# Altium schematic symbol library Symbol.SchLib: 125 symbols (part 1 of 2)
Pins are listed as number, name and electrical type; pins without a type are passive.

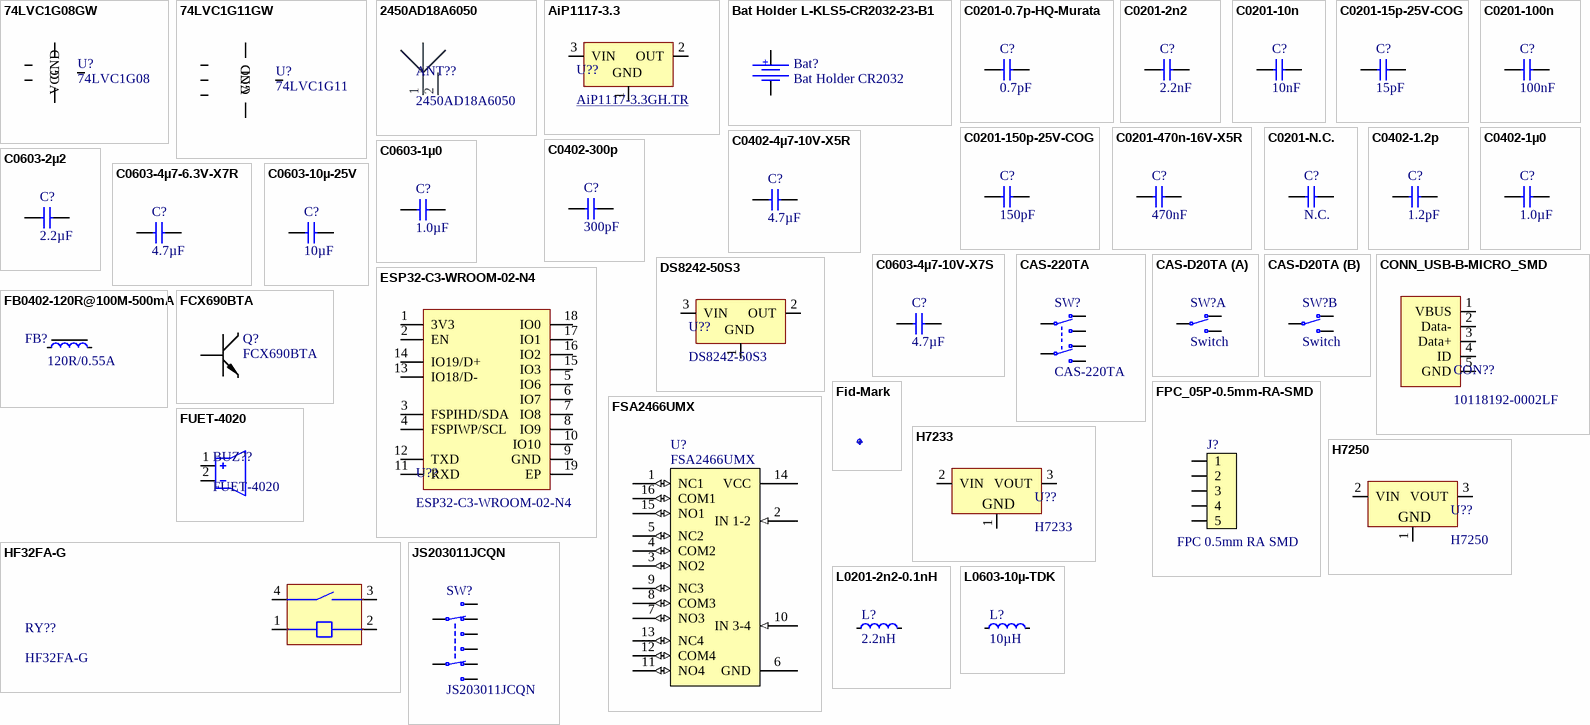
[diagram p0: symbols 74LVC1G08GW to L0603-10µ-TDK]

## 74LVC1G08GW
designator U?, comment 74LVC1G08
Single 2-Input AND Gate; Part Number: 74LVC1G08GW; Manufacturer: NXP Semiconductors; Part number IPS: 00000009992; Artikkelnr Noca: 15049058; Pad Count: 5; Manufacturer Part Number: 74LVC1G08GW; Footprint Doc: SC70-5; LatestRevisionDate: 2016-10-18; Pin Count: 5; Publisher: Nordic Semiconductor; Published: 2016-10-18; Value: 74LVC1G08; Note: Single 2-Input AND Gate; ComponentLink1URL: N.A.; ComponentLink1Description: Datasheet; ComponentLink2URL: N.A.; ComponentLink2Description: Supplier link; HelpURL: http://www.nxp.com/documents/data_sheet/74LVC1G08.pdf; Supplier 1: Digi-Key; Supplier Part Number 1: 568-1580-1-ND; Supplier 2: Farnell; Supplier Part Number 2: 242-8299; Component Class: Misc_ICs; PartId: 101900155
footprint SOT65P210X100-5N
pins: 1 A, 2 B, 3 GND (power), 4 Y, 5 VCC (power)

## 74LVC1G11GW
designator U?, comment 74LVC1G11
Single 3-input AND gate; Part Number: 74LVC1G11GW; Manufacturer: NXP Semiconductors; Part number IPS: 00000001430; Artikkelnr Noca: 15079348; Pad Count: 6; Manufacturer Part Number: 74LVC1G11GW; Footprint Doc: SC70-6; LatestRevisionDate: 2016-10-18; Pin Count: 6; Publisher: Nordic Semiconductor; Published: 2016-10-18; Value: 74LVC1G11; Note: Single 3-input AND gate; ComponentLink1URL: N.A.; ComponentLink1Description: Datasheet; ComponentLink2URL: N.A.; ComponentLink2Description: Supplier link; HelpURL: http://www.nxp.com/documents/data_sheet/74LVC1G11.pdf; Supplier 1: Digi-Key; Supplier Part Number 1: 568-7757-1-ND; Supplier 2: Farnell; Supplier Part Number 2: 243-8826; Component Class: Misc_ICs; PartId: 101900157
footprint SOT65P210X100-6N
pins: 1 A, 2 GND (power), 3 B, 4 Y, 5 VCC (power), 6 C

## 2450AD18A6050
designator ANT??
Antennas 2.45 / 6.05 GHz BT/WiFi and UWB Mini Antenna, Single-feed, Corner Mount; LCSC: NILL; Mouser Part Number: 609-2450AD18A6050; Package: SMD
footprint 2450AD18A6050
pins: 1, 2 NC

## AiP1117-3.3
designator U??, comment AiP1117-3.3GH.TR
LCSC: C2943304
footprint SOT-223
pins: 1 GND, 2 OUT, 3 VIN

## Bat Holder L-KLS5-CR2032-23-B1
designator Bat?, comment Bat Holder CR2032
Bat Holder CR2032 SMD; Part Number: Bat Holder L-KLS5-CR2032-23-B1; Manufacturer: KLS Electronic; Manufacturer Part Number: L-KLS5-CR2032-23-B1; Artikkelnr Noca: N.A.; Pad Count: 2; ComponentLink1URL: http://www.klsele.com/admin/product_upload/20151124103736KLS5-CR2032-23-B.pdf; ComponentLink1Description: Datasheet; ComponentLink2URL: N.A.; ComponentLink2Description: Supplier link; HelpURL: http://www.klsele.com/products/connectors/Coin-Cell-Holders-Series/4685.html; Footprint Doc: CR2032_HOLDER; LatestRevisionDate: 2019-08-29; Published: 2019-08-28; Value: Bat Holder CR2032; Note: Bat Holder CR2032; Supplier 1: Cabcon; Supplier Part Number 1: L-KLS5-CR2032-23-B1; Supplier 2: Mouser; Supplier Part Number 2: 614-SMTU2032-LF; Part number IPS: N.A.; PartId: 100500651; Component Class: Connectors; Author: rsk; Part number Norautron: N.A.
footprint L-KLS5-CR2032-23-B1
pins: 1, 2
text: +

## C0201-0.7p-HQ-Murata
designator C?, comment 0.7pF
Ceramic Capacitor C0G, NP0 0201, ±0.1pF 25V; Part Number: C0201-0.7p-HQ-Murata; Manufacturer: Murata; Manufacturer Part Number: GJM0335C1ER70BB01D; Artikkelnr Noca: N.A.; Pad Count: 2; LatestRevisionDate: 2020-10-13; Pin Count: 2; Publisher: Nordic Semiconductor; Published: 2020-03-05; Value: 0.7pF; Note: 25V; Footprint Doc: 0201; ComponentLink1URL: https://search.murata.co.jp/Ceramy/image/img/A01X/G101/ENG/GJM0335C1ER70BB01-01.pdf; ComponentLink1Description: Datasheet; ComponentLink2URL: https://www.murata.com/en-eu/products/productdetail?partno=GJM0335C1ER70BB01%23; ComponentLink2Description: Supplier link; HelpURL: https://www.digikey.no/product-detail/en/murata-electronics/GJM0335C1ER70BB01D/490-8076-1-ND/4380362; Supplier 1: Digi-Key; Supplier Part Number 1: 490-8076-1-ND; Supplier 2: N.A.; Supplier Part Number 2: N.A.; Part number IPS: N.A.; Component Class: Capacitors; PartId: 100200441
footprint CAPC0603X03L_C
pins: 1, 2

## C0201-2n2
designator C?, comment 2.2nF
Capacitor, X7R, ±10%, 10V; Part Number: C0201-2n2; Manufacturer: N.A.; Part number IPS: 00000001778; Pad Count: 2; LatestRevisionDate: 2014-11-13; Pin Count: 2; Published: 2014-11-13; Value: 2.2nF; Footprint Doc: 0201; Manufacturer Part Number: N.A.; ComponentLink1URL: N.A.; ComponentLink1Description: Datasheet; ComponentLink2URL: N.A.; ComponentLink2Description: Supplier link; HelpURL: N.A.; Publisher: Nordic Semiconductor; Note: 10V; Supplier 1: N.A.; Supplier Part Number 1: N.A.; Supplier 2: N.A.; Supplier Part Number 2: N.A.; Artikkelnr Noca: N.A.; Component Class: Capacitors; PartId: 100200060
footprint CAPC0603X03L_C
pins: 1, 2

## C0201-10n
designator C?, comment 10nF
Capacitor, X7R, ±10%; Part Number: C0201-10n; Manufacturer: N.A.; Part number IPS: 00000003480; Note: 10V; Pad Count: 2; Manufacturer Part Number: N.A.; LatestRevisionDate: 2017-11-09; Pin Count: 2; Publisher: Nordic Semiconductor; Published: 2014-11-13; Value: 10nF; Artikkelnr Noca: N.A.; Footprint Doc: 0201; ComponentLink1URL: N.A.; ComponentLink1Description: Datasheet; ComponentLink2URL: N.A.; ComponentLink2Description: Supplier link; HelpURL: N.A.; Supplier 1: N.A.; Supplier Part Number 1: N.A.; Supplier 2: N.A.; Supplier Part Number 2: N.A.; Component Class: Capacitors; PartId: 100200067
footprint CAPC0603X03L_C
pins: 1, 2

## C0201-15p-25V-COG
designator C?, comment 15pF
Ceramic Capacitor C0G, NP0 0201, ±5% 25V; Part Number: C0201-15p-25V-COG; Manufacturer: Walsin Technology Corporation; Manufacturer Part Number: 0201N150J250CT; Note: Chip Cap 5%; Artikkelnr Noca: N.A.; Pad Count: 2; Footprint Doc: 0201; LatestRevisionDate: 2020-10-13; Pin Count: 2; Publisher: Nordic Semiconductor; Published: 2020-03-17; Value: 15pF; Part number IPS: N.A.; ComponentLink1URL: http://www.passivecomponent.com/wp-content/uploads/ecd/0201N150J250CT-IL.pdf; ComponentLink1Description: Datasheet; ComponentLink2URL: https://www.digikey.no/product-detail/en/walsin-technology-corporation/0201N150J250CT/1292-1138-1-ND/9355142; ComponentLink2Description: Supplier link; HelpURL: N.A.; Supplier 1: Digi-Key; Supplier Part Number 1: 1292-1138-1-ND; Supplier 2: N.A.; Supplier Part Number 2: N.A.; Component Class: Capacitors; PartId: 100200443
footprint CAPC0603X03L_C
pins: 1, 2

## C0201-100n
designator C?, comment 100nF
Capacitor, X5R, ±10%; Part Number: C0201-100n; Manufacturer: N.A.; Part number IPS: 00000001248, 00000002505; Note: 16V; Pad Count: 2; Manufacturer Part Number: N.A.; LatestRevisionDate: 2017-11-09; Pin Count: 2; Publisher: Nordic Semiconductor; Published: 2014-11-13; Value: 100nF; Artikkelnr Noca: N.A.; Footprint Doc: 0201; ComponentLink1URL: N.A.; ComponentLink1Description: Datasheet; ComponentLink2URL: N.A.; ComponentLink2Description: Supplier link; HelpURL: N.A.; Supplier 1: N.A.; Supplier Part Number 1: N.A.; Supplier 2: N.A.; Supplier Part Number 2: N.A.; Component Class: Capacitors; PartId: 100200078
footprint CAPC0603X03L_C
pins: 1, 2

## C0201-150p-25V-COG
designator C?, comment 150pF
Ceramic Capacitor C0G, NP0 0201, ±5% 25V; Part Number: C0201-150p-25V-COG; Manufacturer: Murata; Manufacturer Part Number: GRM0335C1E151JA01D; Note: Chip Cap 5%; Artikkelnr Noca: N.A.; Pad Count: 2; Footprint Doc: 0201; LatestRevisionDate: 2020-10-13; Pin Count: 2; Publisher: Nordic Semiconductor; Published: 2020-03-17; Value: 150pF; Part number IPS: N.A.; ComponentLink1URL: https://www.mouser.com/datasheet/2/281/murata_03052018_GRM_Series_1-1310166.pdf; ComponentLink1Description: Datasheet; ComponentLink2URL: https://www.mouser.com/ProductDetail/Murata-Electronics/GRM0335C1E151JA01D?qs=%2Fha2pyFaduiNjPL6xbzKSo%252BchgTMqklsGrBRdYVX326W%252BRpjq1WqAQZ5mC%252Bu6szW; ComponentLink2Description: Supplier link; HelpURL: N.A.; Supplier 1: Digi-Key; Supplier Part Number 1: 1292-1138-1-ND; Supplier 2: N.A.; Supplier Part Number 2: N.A.; Component Class: Capacitors; PartId: 100200444
footprint CAPC0603X03L_C
pins: 1, 2

## C0201-470n-16V-X5R
designator C?, comment 470nF
Ceramic Capacitor X5R 0201, ±10% 16V; Part Number: C0201-470n-16V-X5R; Manufacturer: Taiyo Yuden; Manufacturer Part Number: EMK063BBJ474KPLF; Artikkelnr Noca: N.A.; Pad Count: 2; Footprint Doc: 0201; LatestRevisionDate: 2020-10-13; Pin Count: 2; Publisher: Nordic Semiconductor; Published: 2020-03-05; Value: 470nF; Note: 16V; Part number IPS: N.A.; ComponentLink1URL: https://ds.yuden.co.jp/TYCOMPAS/ut/specSheet?pn=EMK063BBJ474KPLF; ComponentLink1Description: Datasheet; ComponentLink2URL: https://ds.yuden.co.jp/TYCOMPAS/ut/sm/detail?pn=EMK063BBJ474KPLF&u=M; ComponentLink2Description: Supplier link; HelpURL: https://www.digikey.no/products/en?keywords=587-6264-1-ND; Supplier 1: Digi-Key; Supplier Part Number 1: 587-6264-1-ND; Supplier 2: N.A.; Supplier Part Number 2: N.A.; Component Class: Capacitors; PartId: 100200442
footprint CAPC0603X03L_C
pins: 1, 2

## C0201-N.C.
designator C?, comment N.C.
Not mounted; Part Number: C0201-N.C.; Manufacturer: N.A.; Assembly: Not mounted; Note: Chip Cap; Pad Count: 2; Manufacturer Part Number: N.A.; Footprint Doc: 0201; LatestRevisionDate: 2014-11-13; Pin Count: 2; Publisher: Nordic Semiconductor; Published: 2014-11-13; Value: N.C.; Artikkelnr Noca: N.A.; Part number IPS: N.A.; ComponentLink1URL: N.A.; ComponentLink1Description: Datasheet; ComponentLink2URL: N.A.; ComponentLink2Description: Supplier link; HelpURL: N.A.; Supplier 1: N.A.; Supplier Part Number 1: N.A.; Supplier 2: N.A.; Supplier Part Number 2: N.A.; Component Class: Capacitors; PartId: 100200001
footprint CAPC0603X03L_C_NC
pins: 1, 2

## C0402-1.2p
designator C?, comment 1.2pF
Capacitor, NP0, ±0.1pF; Part Number: C0402-1.2p; Manufacturer: N.A.; Part number IPS: 00000005410; Note: 50V; Artikkelnr Noca: 20029157; Pad Count: 2; Manufacturer Part Number: N.A.; LatestRevisionDate: 2011-05-11; Pin Count: 2; Publisher: Nordic Semiconductor; Published: 2009-05-08; Value: 1.2pF; Footprint Doc: 0402; ComponentLink1URL: N.A.; ComponentLink1Description: Datasheet; ComponentLink2URL: N.A.; ComponentLink2Description: Supplier link; HelpURL: N.A.; Supplier 1: N.A.; Supplier Part Number 1: N.A.; Supplier 2: N.A.; Supplier Part Number 2: N.A.; Component Class: Capacitors; PartId: 100200119
footprint CAPC1005X04L
pins: 1, 2

## C0402-1µ0
designator C?, comment 1.0µF
Capacitor, X5R, ±5%, 6.3V; Part Number: C0402-1µ0; Manufacturer: N.A.; Part number IPS: 00000007786, 00000003457; Artikkelnr Noca: 20039235; Pad Count: 2; Manufacturer Part Number: N.A.; LatestRevisionDate: 2016-08-22; Pin Count: 2; Publisher: Nordic Semiconductor; Published: 2009-05-08; Value: 1.0µF; Note: 6.3V; Footprint Doc: 0402; ComponentLink1URL: N.A.; ComponentLink1Description: Datasheet; ComponentLink2URL: N.A.; ComponentLink2Description: Supplier link; HelpURL: N.A.; Supplier 1: Digi-Key; Supplier Part Number 1: 1276-1444-1-ND; Supplier 2: N.A.; Supplier Part Number 2: N.A.; Component Class: Capacitors; PartId: 100200190
footprint CAPC1005X04L
pins: 1, 2

## C0402-4µ7-10V-X5R
designator C?, comment 4.7µF
CAP CER 4.7UF 10V X5R 0402; Part Number: C0402-4µ7-10V-X5R; Manufacturer: Murata; Manufacturer Part Number: GRM155R61A475MEAAD; Artikkelnr Noca: N.A.; Pad Count: 2; ComponentLink1URL: http://search.murata.co.jp/Ceramy/image/img/A01X/G101/ENG/GRM155R61A475MEAA-01.pdf; ComponentLink1Description: Datasheet; ComponentLink2URL: https://www.digikey.com/product-detail/en/murata-electronics-north-america/GRM155R61A475MEAAD/490-14306-1-ND/6234742; ComponentLink2Description: Supplier link; HelpURL: https://psearch.en.murata.com/capacitor/product/GRM155R61A475MEAA%23.html; Footprint Doc: 0402; LatestRevisionDate: 2020-10-13; Pin Count: 2; Publisher: Nordic Semiconductor; Published: 2018-10-04; Value: 4.7µF; Note: 10V; Supplier 1: Digi-Key; Supplier Part Number 1: 490-14306-1-ND; Supplier 2: N.A.; Supplier Part Number 2: N.A.; Part number IPS: N.A.; Component Class: Capacitors; PartId: 100200415
footprint CAPC1005X04L
pins: 1, 2

## C0402-300p
designator C?, comment 300pF
Capacitor, NP0, ±5%; Part Number: C0402-300p; Manufacturer: N.A.; Part number IPS: 00000007788; Note: 50V; Artikkelnr Noca: 20020004; Pad Count: 2; Manufacturer Part Number: N.A.; Footprint Doc: 0402; LatestRevisionDate: 2020-10-13; Pin Count: 2; Publisher: Nordic Semiconductor; Published: 2015-05-29; Value: 300pF; ComponentLink1URL: N.A.; ComponentLink1Description: Datasheet; ComponentLink2URL: N.A.; ComponentLink2Description: Supplier link; HelpURL: N.A.; Supplier 1: Digi-Key; Supplier Part Number 1: 490-3234-1-ND; Supplier 2: N.A.; Supplier Part Number 2: N.A.; Component Class: Capacitors; PartId: 100200155
footprint CAPC1005X04L
pins: 1, 2

## C0603-1µ0
designator C?, comment 1.0µF
Capacitor, X7R, ±10%; Part Number: C0603-1µ0; Manufacturer: N.A.; Part number IPS: 00000000616; Note: 16V; Artikkelnr Noca: 20039282; Pad Count: 2; Manufacturer Part Number: N.A.; Footprint Doc: 0603; LatestRevisionDate: 2013-06-05; Pin Count: 2; Publisher: Nordic Semiconductor; Published: 2009-05-08; Value: 1.0µF; ComponentLink1URL: N.A.; ComponentLink1Description: Datasheet; ComponentLink2URL: N.A.; ComponentLink2Description: Supplier link; HelpURL: N.A.; Supplier 1: N.A.; Supplier Part Number 1: N.A.; Supplier 2: N.A.; Supplier Part Number 2: N.A.; Component Class: Capacitors; PartId: 100200271
footprint CAPC1608X06L
pins: 1, 2

## C0603-2µ2
designator C?, comment 2.2µF
Capacitor, X7R, ±10%; Part Number: C0603-2µ2; Manufacturer: N.A.; Note: 6.3V; Artikkelnr Noca: 20039322; Pad Count: 2; Manufacturer Part Number: N.A.; LatestRevisionDate: 2016-10-10; Pin Count: 2; Publisher: Nordic Semiconductor; Published: 2009-05-08; Value: 2.2µF; Footprint Doc: 0603; ComponentLink1URL: N.A.; ComponentLink1Description: Datasheet; ComponentLink2URL: N.A.; ComponentLink2Description: Supplier link; HelpURL: N.A.; Supplier 1: N.A.; Supplier Part Number 1: N.A.; Supplier 2: N.A.; Supplier Part Number 2: N.A.; Part number IPS: N.A.; Component Class: Capacitors; PartId: 100200272
footprint CAPC1608X06L
pins: 1, 2

## C0603-4µ7-6.3V-X7R
designator C?, comment 4.7µF
Capacitor, X7R, ±10%, 6.3V; Part Number: C0603-4µ7-6.3V-X7R; Manufacturer: Samsung Electro-Mechanics America; Manufacturer Part Number: CL10B475KQ8NQNC; Part number IPS: 00000002541; Part number Norautron: N.A.; Pad Count: 2; Artikkelnr Noca: 20039473; Value: 4.7µF; Footprint Doc: 0603; Component Class: Capacitors; Author: rsk; PartId: 100200350; ComponentLink1URL: N.A.; ComponentLink1Description: Datasheet; ComponentLink2URL: N.A.; ComponentLink2Description: Supplier link; HelpURL: http://media.digikey.com/pdf/Data%20Sheets/Samsung%20PDFs/CL10B475KQ8NQNC_Spec.pdf; LatestRevisionDate: 2015-06-10; Published: 2015-06-10; Note: 6.3V; Supplier 1: Digi-Key; Supplier Part Number 1: 1276-2087-1-ND; Supplier 2: N.A.; Supplier Part Number 2: N.A.
footprint CAPC1608X06L
pins: 1, 2

## C0603-4µ7-10V-X7S
designator C?, comment 4.7µF
Capacitor, X7S, ±10%, 10V; Part Number: C0603-4µ7-10V-X7S; Manufacturer: N.A.; Part number IPS: 00000001779; Artikkelnr Noca: 20030013; Pad Count: 2; Manufacturer Part Number: N.A.; LatestRevisionDate: 2016-08-15; Pin Count: 2; Publisher: Nordic Semiconductor; Published: 2016-08-15; Value: 4.7µF; Note: 10V; Footprint Doc: 0603; ComponentLink1URL: N.A.; ComponentLink1Description: Datasheet; ComponentLink2URL: N.A.; ComponentLink2Description: Supplier link; HelpURL: N.A.; Supplier 1: Digi-Key; Supplier Part Number 1: 445-14258-1-ND; Supplier 2: N.A.; Supplier Part Number 2: N.A.; Component Class: Capacitors; PartId: 100200351
footprint CAPC1608X06L
pins: 1, 2

## C0603-10µ-25V
designator C?, comment 10µF
Capacitor, X5R, ±20%, 25V; Part Number: C0603-10µ-25V; Manufacturer: Samsung Electro-Mechanics America; Manufacturer Part Number: CL10A106MA8NRNC; Part number IPS: 00000009948; Part number Norautron: N.A.; Artikkelnr Noca: 20039436; Pad Count: 2; Footprint Doc: 0603; LatestRevisionDate: 2015-04-10; Published: 2015-04-10; Value: 10µF; Note: 25V; ComponentLink1URL: N.A.; ComponentLink1Description: Datasheet; ComponentLink2URL: N.A.; ComponentLink2Description: Supplier link; HelpURL: http://www.samsungsem.com/kr/front/downloadcms.do?path=/kr/support/product-search/mlcc/__icsFiles/afieldfile/2014/11/05&fileName=S_CL10A106MA8NRNC.pdf; Supplier 1: Digi-Key; Supplier Part Number 1: 1276-1869-1-ND; Supplier 2: N.A.; Supplier Part Number 2: N.A.; PartId: 100200354; Component Class: Capacitors; Author: rsk
footprint CAPC1608X06L
pins: 1, 2

## CAS-220TA
designator SW?
Slide Switch DPDT J Hook; Manufacturer: Copal Electronics Inc; Part number IPS: 00000009983; Note: N.A.; Artikkelnr Noca: 50019042; Pad Count: 6; Part Number: CAS-220TA; Manufacturer Part Number: CAS-220TA; Footprint Doc: CAS-220TA; LatestRevisionDate: 2010-02-18; Pin Count: 6; Publisher: Nordic Semiconductor; Published: 2010-02-18; Value: CAS-220TA; ComponentLink1URL: N.A.; ComponentLink1Description: Datasheet; ComponentLink2URL: N.A.; ComponentLink2Description: Supplier link; HelpURL: http://media.digikey.com/pdf/Data%20Sheets/COPAL%20Electronics%20PDFs/CAS%20SMD%20Slide%20Switch.pdf; Supplier 1: Digi-Key; Supplier Part Number 1: CAS220JTR-ND; Supplier 2: N.A.; Supplier Part Number 2: N.A.; Component Class: Switches; PartId: 101500003
footprint CAS-220TA
pins: 1 N.O-1, 2 COM-1, 3 N.C-1, 4 N.O-2, 5 COM-2, 6 N.C-2

## CAS-D20TA
designator SW?, comment Switch
SMD slide Switch 2xSPDT; Part Number: CAS-D20TA; Manufacturer: Copal Electronics Inc; Pad Count: 6; Note: N.A.; PartId: 101500004; Component Class: Switches; Author: rsk; Manufacturer Part Number: CAS-D20TA; ComponentLink1URL: N.A.; ComponentLink1Description: Datasheet; ComponentLink2URL: N.A.; ComponentLink2Description: Supplier link; HelpURL: http://copal-electronics.info/jp/0019b/cas_ja.pdf; Footprint Doc: CAS-D20A; LatestRevisionDate: 2012-10-08; Published: 2012-10-08; Value: Switch; Supplier 1: Digi-Key; Supplier Part Number 1: CASD20JTR-ND; Supplier 2: N.A.; Supplier Part Number 2: N.A.; Artikkelnr Noca: N.A.; Part number IPS: N.A.; Part number Norautron: N.A.
footprint CAS-D20A
part A pins: 1 N.O, 2 COM, 3 N.C
part B pins: 4 N.O, 5 COM, 6 N.C

## CONN_USB-B-MICRO_SMD
designator CON??, comment 10118192-0002LF
LCSC: C2972784
footprint CONN_USB-B-MICRO-SMD-10118192-0002LF
pins: 1 VBUS, 2 Data-, 3 Data+, 4 ID, 5 GND

## DS8242-50S3
designator U??
500mA 70dB@(1kHz) null 5V positive 35V SOT23-3 Linear Voltage Regulators (LDO) ROHS; LCSC: C5884139
pins: 1 GND, 2 OUT, 3 VIN

## ESP32-C3-WROOM-02-N4
designator U??
LCSC: C2934560
footprint ESP32-C3-WROOM-02-N4-4MB
pins: 1 3V3, 2 EN, 3 FSPIHD/SDA, 4 FSPIWP/SCL, 5 IO6, 6 IO7, 7 IO8, 8 IO9, 9 GND, 10 IO10, 11 RXD, 12 TXD, 13 IO18/D-, 14 IO19/D+, 15 IO3, 16 IO2, 17 IO1, 18 IO0, 19 EP

## FB0402-120R@100M-500mA
designator FB?, comment 120R/0.55A
Ferrite Bead, 120 Ohm @ 100MHz, 500mA, 250 mOhm Max; Part Number: FB0402-120R@100M-500mA; Manufacturer: Murata; Manufacturer Part Number: BLM15AG121SN1D; Part number IPS: 00000009954; Note: Chip EMIFIL Inductor Type Chip Ferrite Bead; Artikkelnr Noca: 33029317; Pad Count: 2; Footprint Doc: 0402; LatestRevisionDate: 2014-01-10; Pin Count: 2; Publisher: Nordic Semiconductor; Published: 2011-11-14; Value: 120R/0.55A; ComponentLink1Description: Datasheet; ComponentLink2Description: Supplier link; ComponentLink1URL: N.A.; ComponentLink2URL: N.A.; HelpURL: http://search.murata.co.jp/Ceramy/image/img/PDF/ENG/L0110S0100BLM15A_SN.pdf; Supplier 1: Digi-Key; Supplier Part Number 1: 490-1005-1-ND; Supplier 2: Farnell; Supplier Part Number 2: 151-5760; Component Class: Inductors; PartId: 100300099
footprint INDC1005X04L
pins: 1, 2

## FCX690BTA
designator Q?
45V NPN high gain power transistor; Manufacturer: Diodes Incorporated; Part number IPS: 00000009974; Note: N.A.; Artikkelnr Noca: 35010019; Pad Count: 3; Part Number: FCX690BTA; Manufacturer Part Number: FCX690BTA; Footprint Doc: SOT-89; LatestRevisionDate: 2016-07-07; Publisher: Nordic Semiconductor; Published: 2016-07-07; Value: FCX690BTA; ComponentLink1URL: N.A.; ComponentLink1Description: Datasheet; ComponentLink2URL: N.A.; ComponentLink2Description: Supplier link; HelpURL: http://www.diodes.com/_files/datasheets/FCX690B.pdf; Pin Count: 3; Supplier 1: Digi-Key; Supplier Part Number 1: FCX690BCT-ND; Supplier 2: N.A.; Supplier Part Number 2: N.A.; Component Class: Semiconductors; PartId: 101300130
footprint SOT89-150P409X160-3N
pins: 1 B, 2 C (power), 3 E (power)

## Fid-Mark
designator Fid?, comment Fiducial mark  (value not drawn)
Part Number: Fid-Mark; Artikkelnr Noca: N.A.; Manufacturer: *; Manufacturer Part Number: *; LatestRevisionDate: 2009-12-12; Pin Count: 1; Publisher: Nordic Semiconductor; Published: 2009-12-12; Value: *; Note: *; Footprint Doc: Fiducial; Part number IPS: N.A.; ComponentLink1URL: *; ComponentLink1Description: Datasheet; ComponentLink2URL: *; ComponentLink2Description: Supplier link; HelpURL: *; Supplier 1: *; Supplier Part Number 1: *; Supplier 2: *; Supplier Part Number 2: *
footprint Fiducial

## FPC_05P-0.5mm-RA-SMD
designator J?, comment FPC 0.5mm RA SMD
0.5mm FPC, 5P,Right Angle SMT,Double Contact,H=1.2mm,White, Tin plated; Part Number: FPC_05P-0.5mm-RA-SMD; Manufacturer: W-CON; Manufacturer Part Number: 5141-05RZDNWR01; Part number IPS: 00000007792; Note: N.A.; Artikkelnr Noca: 55010020; Pad Count: 7; Footprint Doc: FPC_05P-0.5mm-RA-SMD; LatestRevisionDate: 2016-04-21; Pin Count: 7; Publisher: Nordic Semiconductor; Published: 2015-06-22; Value: FPC 0.5mm RA SMD; ComponentLink1URL: N.A.; ComponentLink1Description: Datasheet; ComponentLink2URL: N.A.; ComponentLink2Description: Supplier link; HelpURL: \\hizz\pro\app9717\Datasheet\connectors\W-CON\5141-XXRZDNXX0X.pdf; Supplier 1: Cabcon; Supplier Part Number 1: 5141-05RZDNWR01; Supplier 2: Digi-Key; Supplier Part Number 2: WM9836CT-ND; Component Class: Connectors; PartId: 100500528
footprint FPC_05P-0.5mm-RA-SMD
pins: 1, 2, 3, 4, 5

## FSA2466UMX
designator U?
Data / Audio Low-Voltage Dual DPDT Analog Switch; Manufacturer: ON Semiconductor; Part number IPS: 00000009986; Note: N.A.; Artikkelnr Noca: 15070069; Pad Count: 16; Part Number: FSA2466UMX; Manufacturer Part Number: FSA2466UMX; Footprint Doc: UFQFN-16; LatestRevisionDate: 2019-05-15; Pin Count: 16; Publisher: Nordic Semiconductor; Published: 2016-05-18; Value: FSA2466UMX; ComponentLink1URL: N.A.; ComponentLink1Description: Datasheet; ComponentLink2URL: N.A.; ComponentLink2Description: Supplier link; HelpURL: https://www.onsemi.com/pub/Collateral/FSA2466-D.PDF; Supplier 1: Digi-Key; Supplier Part Number 1: FSA2466UMXCT-ND; Supplier 2: Mouser; Supplier Part Number 2: 512-FSA2466UMX; Component Class: Misc_ICs; PartId: 101900422
footprint XQFN40P180X260X50-16N
pins: 1 NC1 (io), 2 IN 1-2 (in), 3 NO2 (io), 4 COM2 (io), 5 NC2 (io), 6 GND (power), 7 NO3 (io), 8 COM3 (io), 9 NC3 (io), 10 IN 3-4 (in), 11 NO4 (io), 12 COM4 (io), 13 NC4 (io), 14 VCC (power), 15 NO1 (io), 16 COM1 (io)

## FUET-4020
designator BUZ??
Externally Driven 65dB@3V,10cm Magnetic 3V 4000Hz SMD,4x4mm Buzzers ROHS; LCSC: C391027; Package: SMD_4x4mm
footprint BUZ-SMD_4x4
pins: 1, 2 -

## H7233
designator U??
40dB@(1kHz) 400mA Fixed 3.3V~3.3V Positive 15V SOT-89-3 Linear Voltage Regulators (LDO) ROHS; LCSC: C277849; Package: SOT-89-3
footprint SOT89-150P409X160-3N
pins: 1 GND, 2 VIN, 3 VOUT

## H7250
designator U??
40dB@(1kHz) 400mA Fixed 5V~5V Positive 15V SOT-23-3 Linear Voltage Regulators (LDO) ROHS; LCSC: C277861; Package: SOT-23-3
footprint SOT-23-3
pins: 1 GND, 2 VIN, 3 VOUT

## HF32FA-G
designator RY??
LCSC: C91370; Package: Plugin,10.1x17.6mm
footprint RELAY-HF32FA-G/005-HSL1
pins: 1, 2, 3, 4

## JS203011JCQN
designator SW?
Slide Switch DP3T 300mA 6V; Manufacturer: C&K; Part number IPS: 00000004321; Note: N.A.; Artikkelnr Noca: 50019116; Pad Count: 8; Part Number: JS203011JCQN; Manufacturer Part Number: JS203011JCQN; Footprint Doc: Switch-Slide-J-Lead-DP3T-13x3.5mm; LatestRevisionDate: 2016-10-05; Pin Count: 8; Publisher: Nordic Semiconductor; Published: 2016-10-05; Value: JS203011JCQN; ComponentLink1URL: N.A.; ComponentLink1Description: Datasheet; ComponentLink2URL: N.A.; ComponentLink2Description: Supplier link; HelpURL: http://www.ckswitches.com/media/1422/js.pdf; Supplier 1: Digi-Key; Supplier Part Number 1: CKN10725CT-ND; Supplier 2: N.A.; Supplier Part Number 2: N.A.; Component Class: Switches; PartId: 101500099
footprint Switch-Slide-J-Lead-DP3T-13x3.5mm
pins: 1 N.O, 2 N.C, 3 COM, 4 N.O, 5 N.O, 6 N.C, 7 COM, 8 N.O

## L0201-2n2-0.1nH
designator L?, comment 2.2nH
FIXED IND 2.2NH 600MA 120 MOHM; Part Number: L0201-2n2-0.1nH; Manufacturer: Murata; Manufacturer Part Number: LQP03HQ2N2B02D; Note: High frequency chip inductor ±5%; Artikkelnr Noca: N.A.; Pad Count: 2; ComponentLink1URL: https://search.murata.co.jp/Ceramy/image/img/P02/JELF243C-0021.pdf; ComponentLink1Description: Datasheet; ComponentLink2URL: https://www.murata.com/en-eu/products/productdetail?partno=LQP03HQ2N2B02%23; ComponentLink2Description: Supplier link; HelpURL: https://www.digikey.no/product-detail/en/murata-electronics/LQP03HQ2N2B02D/490-13899-1-ND/6098849; Footprint Doc: 0201; LatestRevisionDate: 2020-03-05; Pin Count: 2; Publisher: Nordic Semiconductor; Published: 2020-03-05; Value: 2.2nH; Supplier 1: Digi-Key; Supplier Part Number 1: 490-13899-1-ND; Supplier 2: N.A.; Supplier Part Number 2: N.A.; Part number IPS: N.A.; Component Class: Inductors; PartId: 100300398
footprint INDC0603X03L_C
pins: 1, 2

## L0603-10µ-TDK
designator L?, comment 10µH
Inductor, 250mA, ±20%, 1.05ohm. -55°C ~ 125°C; Part Number: L0603-10µ-TDK; Manufacturer: TDK Corporation; Manufacturer Part Number: MLZ1608M100WTD25; Note: N.A.; Pad Count: 2; LatestRevisionDate: 2012-09-19; Pin Count: 2; Publisher: Nordic Semiconductor; Published: 2019-05-06; Value: 10µH; Artikkelnr Noca: N.A.; Footprint Doc: 0603; ComponentLink1URL: N.A.; ComponentLink1Description: Datasheet; ComponentLink2URL: N.A.; ComponentLink2Description: Supplier link; HelpURL: https://product.tdk.com/info/en/catalog/datasheets/inductor_automotive_decoupling_mlz1608_en.pdf; Supplier 1: Digi-Key; Supplier Part Number 1: 445-175588-1-ND; Supplier 2: Mouser; Supplier Part Number 2: 810-MLZ1608M100WTD25; Part number IPS: N.A.; Component Class: Inductors; PartId: 100300079
footprint INDC1608X06L
pins: 1, 2

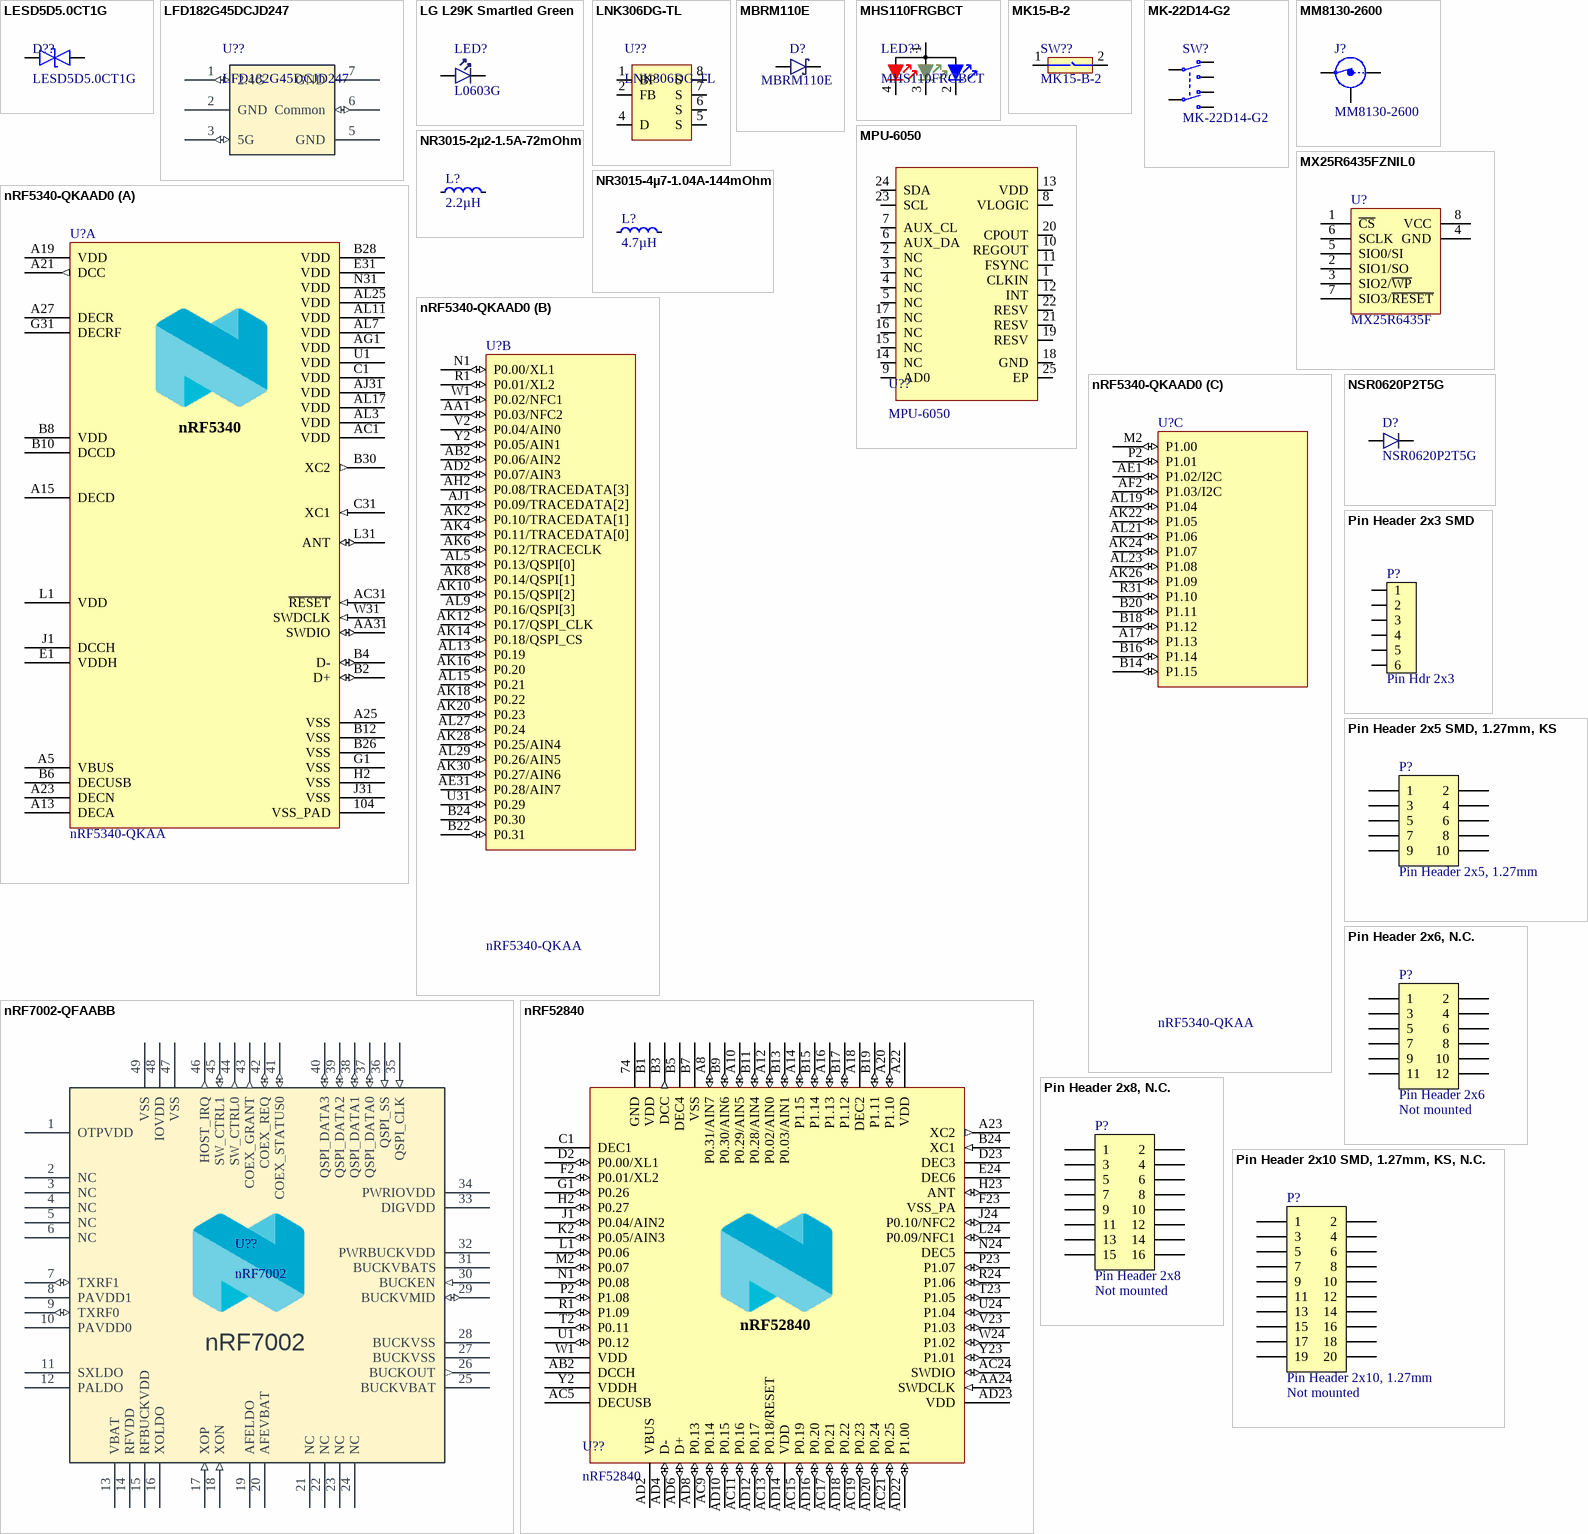
[diagram p1: symbols LESD5D5.0CT1G to Pin Header 2x10 SMD, 1.27mm, KS, N.C.]

## LESD5D5.0CT1G
designator D??
LCSC: C383211
footprint SOD-523
pins: 1, 2

## LFD182G45DCJD247
designator U??
SMD Diplexers ROHS; LCSC: C389571; Footprint: CAF-50P160X80-6N
footprint CAF-50P160X80-6N
pins: 1 2.4G (io), 2 GND (power), 3 5G (io), 5 GND (power), 6 Common (io), 7 GND (power)

## LG L29K Smartled Green
designator LED?, comment L0603G
LED, Green, 0603, 570nm, Vf=1.7V, 2.24..5.6mcd, - 40 to +100°C; Part Number: LG L29K Smartled Green; Manufacturer: Osram; Manufacturer Part Number: LG L29K-G2J1-24-Z; Part number IPS: 00000009961; Part number Norautron: N.A.; Note: 2.24..5.6 mcd, Vfmin=1.7V; Artikkelnr Noca: 13019147; Pad Count: 2; Footprint Doc: 0603; LatestRevisionDate: 2017-08-21; Published: 2014-10-28; Value: L0603G; ComponentLink1URL: N.A.; ComponentLink1Description: Datasheet; ComponentLink2URL: N.A.; ComponentLink2Description: Supplier link; HelpURL: http://www.osram-os.com/Graphics/XPic2/00077107_0.pdf; Supplier 1: Digi-Key; Supplier Part Number 1: 475-2709-1-ND; Supplier 2: Mouser; Supplier Part Number 2: 720-LGL29KG2J124Z; PartId: 101400096; Component Class: Optoelectronics; Author: rsk
footprint LED_0603_G
pins: 1 C, 2 A

## LNK306DG-TL
designator U??
LCSC: C394187; Package: SO-7
footprint SO-8C_7P_4.9x3.9mm
pins: 1 BP, 2 FB, 4 D, 5 S, 6 S, 7 S, 8 S

## MBRM110E
designator D?
Diode Schottky Vf=0.455V @ 100mA, Vr=10V, If=1000mA, Ir=1µA @ 10V; Manufacturer: ON Semiconductor; Manufacturer Part Number: MBRM110ET1G; Part number IPS: 00000009953; Note: N.A.; Artikkelnr Noca: 10029172; Pad Count: 2; Part Number: MBRM110E; Footprint Doc: DO-216AA; LatestRevisionDate: 2016-10-24; Publisher: Nordic Semiconductor; Published: 2016-10-24; Value: MBRM110E; ComponentLink1URL: N.A.; ComponentLink1Description: Datasheet; ComponentLink2URL: N.A.; ComponentLink2Description: Supplier link; HelpURL: http://media.digikey.com/pdf/Data%20Sheets/ON%20Semiconductor%20PDFs/MBRM110E-D.pdf; Pin Count: 2; Supplier 1: Digi-Key; Supplier Part Number 1: MBRM110ET1GOSTR-ND; Supplier 2: Farnell; Supplier Part Number 2: 236-9429; Component Class: Semiconductors; PartId: 101300099
footprint DO-216AA
pins: 1 A, 3 C

## MHS110FRGBCT
designator LED??
SMD,1.5x3.2mm; LCSC: C496820; Package: SMD_1.5x3.2mm
footprint LED_RGB_SMD_1.5x3.2mm
pins: 1 A, 2 C, 3 C, 4 C

## MK15-B-2
designator SW??
Molded Body Reed Switch SPST-NO 10 ~ 15AT Operate Range 10W 500mA (AC/DC) 180 V Surface Mount; LCSC: C575297
footprint REED_SWITCH_SMD_MK15-B-2
pins: 1, 2

## MK-22D14-G2
designator SW?
Slide Switch DPDT; Manufacturer: HUA-JIE CORP.; Note: N.A.; Pad Count: 6; Part Number: MK-22D14-G2; Manufacturer Part Number: MK-22D14-G2; Footprint Doc: MK-22D14-G2; LatestRevisionDate: 2020-10-06; Published: 2020-12-01; Value: MK-22D14-G2; Artikkelnr Noca: N.A.; Part number IPS: N.A.; ComponentLink1URL: N.A.; ComponentLink1Description: Datasheet; ComponentLink2URL: N.A.; ComponentLink2Description: Supplier link; HelpURL: N.A.; Supplier 1: Cabcon; Supplier Part Number 1: MK-22D14-G2; Supplier 2: N.A.; Supplier Part Number 2: N.A.; Component Class: Switches; PartId: 101500131; Author: rsk; Part number Norautron: N.A.
footprint MK-22D14-G2
pins: 1 N.O-1, 2 COM-1, 3 N.C-1, 4 N.O-2, 5 COM-2, 6 N.C-2

## MM8130-2600
designator J?
Coaxial Connector with Switch; Manufacturer: Murata; Part number IPS: 00000009955; Note: N.A.; Artikkelnr Noca: 55029011; Pad Count: 3; Part Number: MM8130-2600; Manufacturer Part Number: MM8130-2600; LatestRevisionDate: 2014-04-24; Pin Count: 3; Publisher: Nordic Semiconductor; Published: 2014-04-24; Value: MM8130-2600; Footprint Doc: COAXIAL-SWF; ComponentLink1URL: N.A.; ComponentLink1Description: Datasheet; ComponentLink2URL: N.A.; ComponentLink2Description: Supplier link; HelpURL: http://www.murata.com/products/catalog/pdf/o33e.pdf; Supplier 1: Digi-Key; Supplier Part Number 1: 490-4981-1-ND; Supplier 2: Mouser; Supplier Part Number 2: 81-MM8130-2600RA2; Component Class: Connectors; PartId: 100500400
footprint COAXIAL-SWF
pins: 1 IN, 2 Shield, 3 OUT

## MPU-6050
designator U??
LCSC: C24112
footprint QFN-24_4x4mm
pins: 1 CLKIN, 2 NC, 3 NC, 4 NC, 5 NC, 6 AUX_DA, 7 AUX_CL, 8 VLOGIC, 9 AD0, 10 REGOUT, 11 FSYNC, 12 INT, 13 VDD, 14 NC, 15 NC, 16 NC, 17 NC, 18 GND, 19 RESV, 20 CPOUT, 21 RESV, 22 RESV, 23 SCL, 24 SDA, 25 EP

## MX25R6435FZNIL0
designator U?, comment MX25R6435F
Ultra low power, 64M-bit, serial multi I/O flash memory; Part Number: MX25R6435FZNIL0; Manufacturer: Macronix; Part number IPS: 00000004370; Note: N.A.; Artikkelnr Noca: 15020015; Pad Count: 8; Manufacturer Part Number: MX25R6435FZNIL0; Footprint Doc: WSON-8; LatestRevisionDate: 2021-02-26; Published: 2016-06-29; Value: MX25R6435F; ComponentLink1URL: N.A.; ComponentLink1Description: Datasheet; ComponentLink2URL: N.A.; ComponentLink2Description: Supplier link; HelpURL: https://www.macronix.com/Lists/Datasheet/Attachments/7913/MX25R6435F,%20Wide%20Range,%2064Mb,%20v1.5.pdf; Supplier 1: Future; Supplier Part Number 1: MX25R6435FZNIL0; Supplier 2: Arrow; Supplier Part Number 2: MX25R6435FZNIL0; Component Class: Misc_ICs; PartId: 101900438; Author: rsk; Part number Norautron: N.A.
footprint SON127P600X80_HS-9N
pins: 1 ~{CS}, 2 SIO1/SO, 3 SIO2/~{WP}, 4 GND, 5 SIO0/SI, 6 SCLK, 7 SIO3/~{RESET}, 8 VCC, 9 GND hidden to GND

## NR3015-2µ2-1.5A-72mOhm
designator L?, comment 2.2µH
Ferrite Inductor, Shielded, 1,5A, 72mOhm; Part Number: NR3015-2µ2-1.5A-72mOhm; Manufacturer: Taiyo Yuden; Manufacturer Part Number: NR3015T2R2M; Part number IPS: 00000009959; Note: N.A.; Artikkelnr Noca: 33029487; Pad Count: 2; Footprint Doc: 1212; LatestRevisionDate: 2014-01-22; Pin Count: 2; Publisher: Nordic Semiconductor; Published: 2014-01-22; Value: 2.2µH; ComponentLink1Description: Datasheet; ComponentLink2Description: Supplier link; ComponentLink1URL: N.A.; ComponentLink2URL: N.A.; HelpURL: http://www.yuden.co.jp/ut/product/category/inductor/NR3015T2R2M.pdf; Supplier 1: Digi-Key; Supplier Part Number 1: 587-1648-1-ND; Supplier 2: Farnell; Supplier Part Number 2: 188-5853; Component Class: Inductors; PartId: 100300143
footprint TY-NR3015
pins: 1, 2

## NR3015-4µ7-1.04A-144mOhm
designator L?, comment 4.7µH
Ferrite Inductor, Shielded, 1,04A, 144mOhm; Part Number: NR3015-4µ7-1.04A-144mOhm; Manufacturer: Taiyo Yuden; Manufacturer Part Number: NR3015T4R7M; Part number IPS: 00000009960; Note: N.A.; Artikkelnr Noca: 33029551; Pad Count: 2; Footprint Doc: 1212; LatestRevisionDate: 2014-01-22; Pin Count: 2; Publisher: Nordic Semiconductor; Published: 2014-01-22; Value: 4.7µH; ComponentLink1Description: Datasheet; ComponentLink2Description: Supplier link; ComponentLink1URL: N.A.; ComponentLink2URL: N.A.; HelpURL: http://www.yuden.co.jp/ut/product/category/inductor/NR3015T4R7M.pdf; Supplier 1: Digi-Key; Supplier Part Number 1: 587-1649-1-ND; Supplier 2: Mouser; Supplier Part Number 2: 963-NR3015T4R7M; Component Class: Inductors; PartId: 100300145
footprint TY-NR3015
pins: 1, 2

## nRF5340-QKAAD0
designator U?, comment nRF5340-QKAA
Multi-protocol Bluetooth Low Energy, IEEE 802.15.4, ANT and 2.4GHz proprietary system-on-chip; Part Number: nRF5340-QKAAD0; Manufacturer: Nordic Semiconductor; Note: N.A.; Pad Count: 98; Manufacturer Part Number: nRF5340-QKAAD0; Footprint Doc: AQFN-98; LatestRevisionDate: 2020-12-02; Published: 2020-12-02; Value: nRF5340-QKAA; Artikkelnr Noca: N.A.; Part number IPS: N.A.; ComponentLink1URL: N.A.; ComponentLink1Description: Datasheet; ComponentLink2URL: N.A.; ComponentLink2Description: Supplier link; HelpURL: N.A.; Supplier 1: Nordic Semiconductor; Supplier Part Number 1: nRF5340-QKAAD0; Supplier 2: N.A.; Supplier Part Number 2: N.A.; Component Class: nRF_Devices; PartId: 102000216; Author: rsk; Part number Norautron: N.A.
footprint AQFN40P700X700X85_HS-99N
part A pins: 104 VSS_PAD (power), A5 VBUS (power), A13 DECA (power), A15 DECD (power), A19 VDD (power), A21 DCC (out), A23 DECN (power), A25 VSS (power), A27 DECR (power), AA31 SWDIO (io), AC1 VDD (power), AC31 ~{RESET} (in), AG1 VDD (power), AG31 N.C. hidden, AJ31 VDD (power), AL3 VDD (power), AL7 VDD (power), AL11 VDD (power), AL17 VDD (power), AL25 VDD (power), B2 D+ (io), B4 D- (io), B6 DECUSB (power), B8 VDD (power), B10 DCCD (power), B12 VSS (power), B26 VSS (power), B28 VDD (power), B30 XC2 (out), C1 VDD (power), C31 XC1 (in), D2 N.C. hidden, E1 VDDH (power), E31 VDD (power), F2 N.C. hidden, G1 VSS (power), G31 DECRF (power), H2 VSS (power), J1 DCCH (power), J31 VSS (power), L1 VDD (power), L31 ANT (io), N31 VDD (power), T2 N.C. hidden, U1 VDD (power), W31 SWDCLK (in)
part B pins: AA1 P0.03/NFC2 (io), AB2 P0.06/AIN2 (io), AD2 P0.07/AIN3 (io), AE31 P0.28/AIN7 (io), AH2 P0.08/TRACEDATA[3] (io), AJ1 P0.09/TRACEDATA[2] (io), AK2 P0.10/TRACEDATA[1] (io), AK4 P0.11/TRACEDATA[0] (io), AK6 P0.12/TRACECLK (io), AK8 P0.14/QSPI[1] (io), AK10 P0.15/QSPI[2] (io), AK12 P0.17/QSPI_CLK (io), AK14 P0.18/QSPI_CS (io), AK16 P0.20 (io), AK18 P0.22 (io), AK20 P0.23 (io), AK28 P0.25/AIN4 (io), AK30 P0.27/AIN6 (io), AL5 P0.13/QSPI[0] (io), AL9 P0.16/QSPI[3] (io), AL13 P0.19 (io), AL15 P0.21 (io), AL27 P0.24 (io), AL29 P0.26/AIN5 (io), B22 P0.31 (io), B24 P0.30 (io), N1 P0.00/XL1 (io), R1 P0.01/XL2 (io), U31 P0.29 (io), V2 P0.04/AIN0 (io), W1 P0.02/NFC1 (io), Y2 P0.05/AIN1 (io)
part C pins: A17 P1.13 (io), AE1 P1.02/I2C (io), AF2 P1.03/I2C (io), AK22 P1.05 (io), AK24 P1.07 (io), AK26 P1.09 (io), AL19 P1.04 (io), AL21 P1.06 (io), AL23 P1.08 (io), B14 P1.15 (io), B16 P1.14 (io), B18 P1.12 (io), B20 P1.11 (io), M2 P1.00 (io), P2 P1.01 (io), R31 P1.10 (io)
part A text: nRF5340

## nRF7002-QFAABB
designator U??, comment nRF7002
Wifi Dual Band Companion chip; Mouser Part Number: 949-NRF7002-QFAA-R; LCSC: NILL; Package: QFN-40
footprint QFN40P600X600X60-48N
pins: 1 OTPVDD (power) "OTP write mode supply,  (2.25-2.75V)", 2 NC, 3 NC, 4 NC, 5 NC, 6 NC, 7 TXRF1 (io) "RF INOUT ,", 8 PAVDD1 (power) "Supply ,  (3.3V)", 9 TXRF0 (io) "RF INOUT ,", 10 PAVDD0 (power) "Supply ,  (3.3V)", 11 SXLDO (power) "Supply ,  (1.2V)", 12 PALDO (power) "Supply ,  (3.3V)", 13 VBAT (power) "Supply ,  (2.5-4.5V)", 14 RFVDD (power) "Supply ,  (1.8V)", 15 RFBUCKVDD (power) "Supply ,  (1.5V)", 16 XOLDO (power) "Supply ,  (1.2V)", 17 XOP (in) "40MHz crystal ,", 18 XON (in) "40MHz crystal ,", 19 AFELDO (power) "Supply ,  (1.8V)", 20 AFEVBAT (power) "Supply ,  (2.5-4.5V)", 21 NC, 22 NC, 23 NC, 24 NC, 25 BUCKVBAT (power) "Supply ,  (2.5-4.5V)", 26 BUCKOUT (out) "DCDC output", 27 BUCKVSS (power) "DCDC GND", 28 BUCKVSS (power) "DCDC GND", 29 BUCKVMID (io) "Voltage reference decoupling pin ,", 30 BUCKEN (in) "PWR IP enable pin ,", 31 BUCKVBATS (power) "Supply ,  (2.5-4.5V)", 32 PWRBUCKVDD (power) "Supply ,  (1.5V)", 33 DIGVDD (power) "Supply ,  (1.1V)", 34 PWRIOVDD (power) "internal IO supply, may be used for OTP read,  (1.8-3.3 V)", 35 QSPI_CLK (in) "QSPI Clock", 36 QSPI_SS (in) "QSPI  Slave select", 37 QSPI_DATA0 (io) "QSPI data 0/MOSI", 38 QSPI_DATA1 (io) "QSPI data 1/MISO", 39 QSPI_DATA2 (io) "QSPI data 2/NC", 40 QSPI_DATA3 (io) "QSPI data 3/NC", 41 COEX_STATUS0 (io) "Coex interface, DIGMON1 (O) / GPIO1 (O)", 42 COEX_REQ (io) "Coex interface, DIGMON0 (O) / GPIO0 (O)", 43 COEX_GRANT (out) "Coex interface, GPIO2 (O)", 44 SW_CTRL0 (out) "external switch control , GPIO3 (O)", 45 SW_CTRL1 (io) "external switch control , GPIO4 (O) / BT_COEX_STATUS1 (I)", 46 HOST_IRQ (out) "Host processor interrupt request , GPIO5 (O)", 47 VSS "Connect to GND", 48 IOVDD (power) "IO supply ,  (1.8-3.3 V)", 49 VSS (power) "Center Pad"

## nRF52840
designator U??
AQFN-73-EP(7x7) RF Transceiver ICs ROHS; LCSC: C190794
footprint AQFN50P700X700X85_HS-74N
pins: 74 GND (power), A8 P0.31/AIN7 (io), A10 P0.29/AIN5 (io), A12 P0.02/AIN0 (io), A14 P1.15 (io), A16 P1.13 (io), A18 DEC2 (power), A20 P1.10 (io), A22 VDD (power), A23 XC2 (out), AA24 SWDCLK (in), AB2 DCCH (power), AC5 DECUSB (power), AC9 P0.14 (io), AC11 P0.16 (io), AC13 P0.18/RESET (io), AC15 P0.19 (io), AC17 P0.21 (io), AC19 P0.23 (io), AC21 P0.25 (io), AC24 SWDIO (io), AD2 VBUS (power), AD4 D- (io), AD6 D+ (io), AD8 P0.13 (io), AD10 P0.15 (io), AD12 P0.17 (io), AD14 VDD (power), AD16 P0.20 (io), AD18 P0.22 (io), AD20 P0.24 (io), AD22 P1.00 (io), AD23 VDD (power), B1 VDD (power), B3 DCC (out), B5 DEC4 (power), B7 VSS (power), B9 P0.30/AIN6 (io), B11 P0.28/AIN4 (io), B13 P0.03/AIN1 (io), B15 P1.14 (io), B17 P1.12 (io), B19 P1.11 (io), B24 XC1 (in), C1 DEC1 (power), D2 P0.00/XL1 (io), D23 DEC3 (power), E24 DEC6 (power), F2 P0.01/XL2 (io), F23 VSS_PA (power), G1 P0.26 (io), H2 P0.27 (io), H23 ANT (io), J1 P0.04/AIN2 (io), J24 P0.10/NFC2 (io), K2 P0.05/AIN3 (io), L1 P0.06 (io), L24 P0.09/NFC1 (io), M2 P0.07 (io), N1 P0.08 (io), N24 DEC5 (power), P2 P1.08 (io), P23 P1.07 (io), R1 P1.09 (io), R24 P1.06 (io), T2 P0.11 (io), T23 P1.05 (io), U1 P0.12 (io), U24 P1.04 (io), V23 P1.03 (io), W1 VDD (power), W24 P1.02 (io), Y2 VDDH (power), Y23 P1.01 (io)

## NSR0620P2T5G
designator D?
20V schottky barrier diode, Vf 350 mV @ 100 mA, Ir 2.0 µA @ 10 V, If 500 mA; Manufacturer: ON Semiconductor; Part number IPS: 00000009952; Note: N.A.; Artikkelnr Noca: 10029169; Pad Count: 2; Part Number: NSR0620P2T5G; Manufacturer Part Number: NSR0620P2T5G; LatestRevisionDate: 2016-07-07; Publisher: Nordic Semiconductor; Published: 2016-07-07; Value: NSR0620P2T5G; Footprint Doc: SOD-923; ComponentLink1URL: N.A.; ComponentLink1Description: Datasheet; ComponentLink2URL: N.A.; ComponentLink2Description: Supplier link; HelpURL: http://www.onsemi.com/pub_link/Collateral/NSR0620P2-D.PDF; Pin Count: 2; Supplier 1: Digi-Key; Supplier Part Number 1: NSR0620P2T5GOSCT-ND; Supplier 2: N.A.; Supplier Part Number 2: N.A.; Component Class: Semiconductors; PartId: 101300131
footprint SODFL100X40-2N
pins: 1 C, 2 A

## Pin Header 2x3 SMD
designator P?, comment Pin Hdr 2x3
Pin Header 2x3, 2.54mm (100mil) SMD; Part Number: Pin Header 2x3 SMD; Manufacturer: W-CON; Manufacturer Part Number: 1125-1203S0M116R1; Part number IPS: 00000009966; Artikkelnr Noca: 55010007; Pad Count: 6; Footprint Doc: HDR_2x3-SMD; LatestRevisionDate: 2016-01-22; Pin Count: 6; Publisher: Nordic Semiconductor; Published: 2016-01-22; Value: Pin Hdr 2x3; Note: SMD; ComponentLink1URL: N.A.; ComponentLink1Description: Datasheet; ComponentLink2URL: N.A.; ComponentLink2Description: Supplier link; HelpURL: \\hizz\pro\app9717\Datasheet\connectors\W-CON\1125-12XXXXMXXXXX.PDF; Supplier 1: Cabcon; Supplier Part Number 1: 1125-1203S0M116R1; Supplier 2: Samtec; Supplier Part Number 2: TSM-103-01-L-DV; Component Class: Connectors; PartId: 100500242
footprint HDR_2x3-SMD
pins: 1, 2, 3, 4, 5, 6

## Pin Header 2x5 SMD, 1.27mm, KS
designator P?, comment Pin Header 2x5, 1.27mm
Pin Header 2x5, 1.27mm (50mil), SMD, Keying Shroud; Part Number: Pin Header 2x5 SMD, 1.27mm, KS; Manufacturer: W-CON; Manufacturer Part Number: 3132-10MS0BK00R1; Part number IPS: 00000009968; Note: N.A.; Artikkelnr Noca: 55010009; Pad Count: 10; Footprint Doc: HDR_2x5-SMD-1.27mm; LatestRevisionDate: 2016-04-21; Pin Count: 10; Publisher: Nordic Semiconductor; Published: 2016-01-22; Value: Pin Header 2x5, 1.27mm; ComponentLink1URL: N.A.; ComponentLink1Description: Datasheet; ComponentLink2URL: N.A.; ComponentLink2Description: Supplier link; HelpURL: \\hizz\pro\app9717\Datasheet\connectors\W-CON\3132-XXMXXBK00XX.pdf; Supplier 1: Cabcon; Supplier Part Number 1: 3132-10MS0BK00R1; Supplier 2: Samtec; Supplier Part Number 2: FTSH-105-01-F-DV-K; Component Class: Connectors; PartId: 100500261
footprint HDR_2x5-SMD-1.27mm-K
pins: 1, 2, 3, 4, 5, 6, 7, 8, 9, 10

## Pin Header 2x6, N.C.
designator P?, comment Pin Header 2x6  Assembly: Not mounted
Pin Header 2x6, 2.54mm (100mil); Part Number: Pin Header 2x6, N.C.; Manufacturer: N.A.; Pad Count: 12; Manufacturer Part Number: N.A.; Footprint Doc: HDR_2x6; LatestRevisionDate: 2014-07-04; Pin Count: 12; Publisher: Nordic Semiconductor; Published: 2009-12-12; Value: Pin Header 2x6; Note: N.A.; Artikkelnr Noca: N.A.; Part number IPS: N.A.; ComponentLink1URL: N.A.; ComponentLink1Description: Datasheet; ComponentLink2URL: N.A.; ComponentLink2Description: Supplier link; HelpURL: N.A.; Supplier 1: N.A.; Supplier Part Number 1: N.A.; Supplier 2: N.A.; Supplier Part Number 2: N.A.; Component Class: Connectors; PartId: 100500265
footprint HDR_2x6-NC
pins: 1, 2, 3, 4, 5, 6, 7, 8, 9, 10, 11, 12

## Pin Header 2x8, N.C.
designator P?, comment Pin Header 2x8  Assembly: Not mounted
Pin Header 2x8, 2.54mm (100mil); Part Number: Pin Header 2x8, N.C.; Manufacturer: N.A.; Pad Count: 16; Manufacturer Part Number: N.A.; Footprint Doc: HDR_2x8; LatestRevisionDate: 2009-12-12; Pin Count: 16; Publisher: Nordic Semiconductor; Published: 2009-12-12; Value: Pin Header 2x8; Note: N.A.; Artikkelnr Noca: N.A.; Part number IPS: N.A.; ComponentLink1URL: N.A.; ComponentLink1Description: Datasheet; ComponentLink2URL: N.A.; ComponentLink2Description: Supplier link; HelpURL: N.A.; Supplier 1: N.A.; Supplier Part Number 1: N.A.; Supplier 2: N.A.; Supplier Part Number 2: N.A.; Component Class: Connectors; PartId: 100500270
footprint HDR_2x8-NC
pins: 1, 2, 3, 4, 5, 6, 7, 8, 9, 10, 11, 12, 13, 14, 15, 16

## Pin Header 2x10 SMD, 1.27mm, KS, N.C.
designator P?, comment Pin Header 2x10, 1.27mm  Assembly: Not mounted
Pin Header 2x10, 1.27mm (50mil), SMD, Keying Shroud; Part Number: Pin Header 2x10 SMD, 1.27mm, KS, N.C.; Manufacturer: W-CON; Manufacturer Part Number: 3132-20MS0BK00R1; Note: N.A.; Pad Count: 20; LatestRevisionDate: 2017-10-23; Pin Count: 20; Publisher: Nordic Semiconductor; Published: 2017-09-07; Value: Pin Header 2x10, 1.27mm; Artikkelnr Noca: N.A.; Footprint Doc: HDR_2x10-SMD-1.27mm; Part number IPS: N.A.; ComponentLink1URL: N.A.; ComponentLink1Description: Datasheet; ComponentLink2URL: N.A.; ComponentLink2Description: Supplier link; HelpURL: N.A.; Supplier 1: Cabcon; Supplier Part Number 1: 3132-20MS0BK00R1; Supplier 2: Digi-Key; Supplier Part Number 2: FTSH-110-01-F-DV-K-ND; Component Class: Connectors; PartId: 100500279
footprint HDR_2x10-SMD-1.27mm-NC
pins: 1, 2, 3, 4, 5, 6, 7, 8, 9, 10, 11, 12, 13, 14, 15, 16, 17, 18, 19, 20

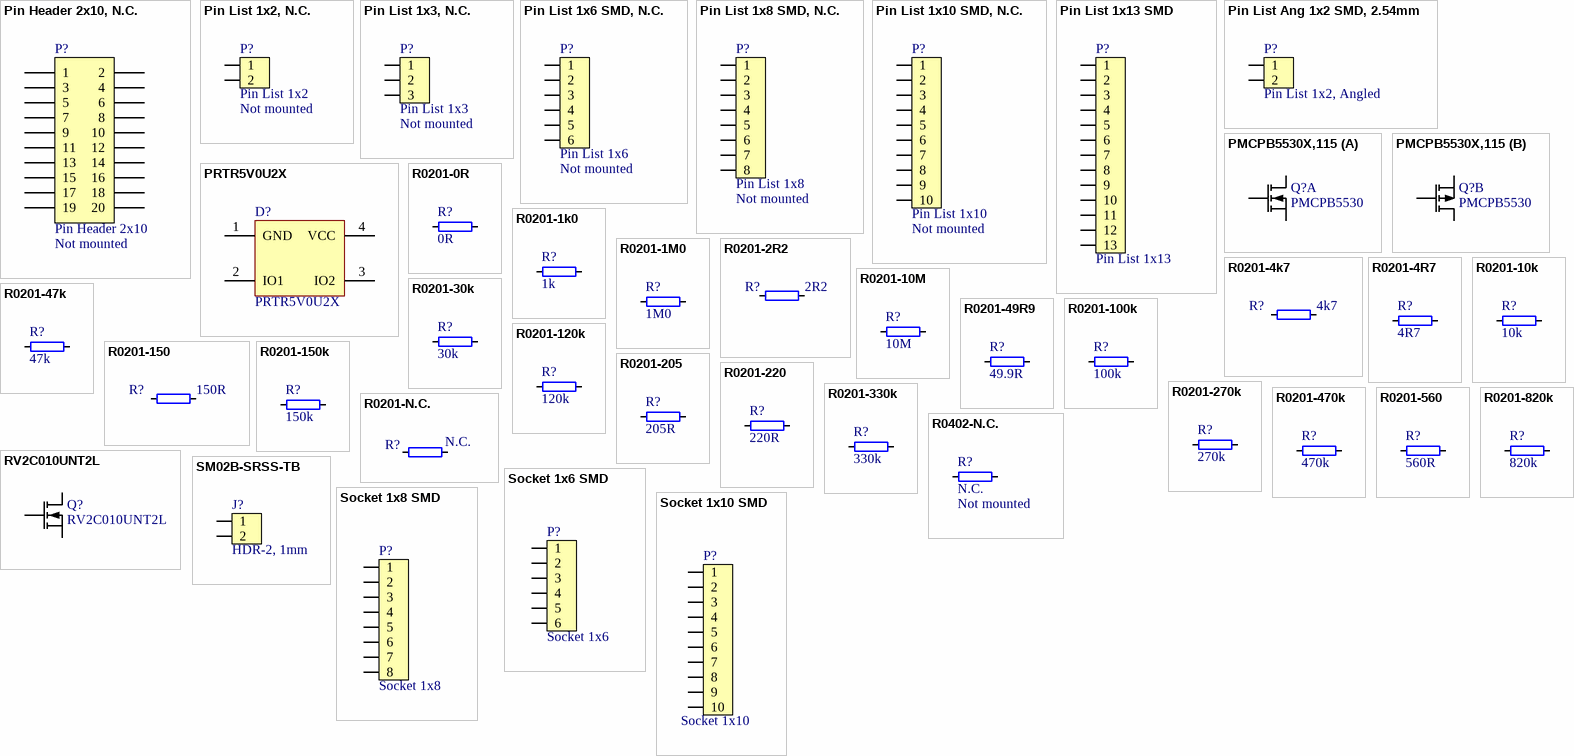
[diagram p2: symbols Pin Header 2x10, N.C. to Socket 1x10 SMD]

## Pin Header 2x10, N.C.
designator P?, comment Pin Header 2x10  Assembly: Not mounted
Pin Header 2x10, 2.54mm (100mil); Part Number: Pin Header 2x10, N.C.; Manufacturer: N.A.; Pad Count: 20; Manufacturer Part Number: N.A.; Footprint Doc: HDR_2x10; LatestRevisionDate: 2017-02-02; Pin Count: 20; Publisher: Nordic Semiconductor; Published: 2017-01-30; Value: Pin Header 2x10; Note: N.A.; Artikkelnr Noca: N.A.; Part number IPS: N.A.; ComponentLink1URL: N.A.; ComponentLink1Description: Datasheet; ComponentLink2URL: N.A.; ComponentLink2Description: Supplier link; HelpURL: N.A.; Supplier 1: N.A.; Supplier Part Number 1: N.A.; Supplier 2: N.A.; Supplier Part Number 2: N.A.; Component Class: Connectors; PartId: 100500274
footprint HDR_2x10-NC
pins: 1, 2, 3, 4, 5, 6, 7, 8, 9, 10, 11, 12, 13, 14, 15, 16, 17, 18, 19, 20

## Pin List 1x2, N.C.
designator P?, comment Pin List 1x2  Assembly: Not mounted
Pin List 1x2, 2.54mm (100mil); Part Number: Pin List 1x2, N.C.; Manufacturer: N.A.; Pad Count: 2; Manufacturer Part Number: N.A.; Footprint Doc: LIST_1x2; LatestRevisionDate: 2017-02-02; Pin Count: 2; Publisher: Nordic Semiconductor; Published: 2017-01-30; Value: Pin List 1x2; Note: N.A.; Artikkelnr Noca: N.A.; Part number IPS: N.A.; ComponentLink1URL: N.A.; ComponentLink1Description: Datasheet; ComponentLink2URL: N.A.; ComponentLink2Description: Supplier link; HelpURL: N.A.; Supplier 1: N.A.; Supplier Part Number 1: N.A.; Supplier 2: N.A.; Supplier Part Number 2: N.A.; Component Class: Connectors; PartId: 100500298
footprint LIST_1x2-NC
pins: 1, 2

## Pin List 1x3, N.C.
designator P?, comment Pin List 1x3  Assembly: Not mounted
Pin List 1x3, 2.54mm (100mil); Part Number: Pin List 1x3, N.C.; Manufacturer: N.A.; Pad Count: 3; Manufacturer Part Number: N.A.; Footprint Doc: LIST_1x3; LatestRevisionDate: 2017-09-07; Pin Count: 3; Publisher: Nordic Semiconductor; Published: 2017-09-07; Value: Pin List 1x3; Note: N.A.; Artikkelnr Noca: N.A.; Part number IPS: N.A.; ComponentLink1URL: N.A.; ComponentLink1Description: Datasheet; ComponentLink2URL: N.A.; ComponentLink2Description: Supplier link; HelpURL: N.A.; Supplier 1: N.A.; Supplier Part Number 1: N.A.; Supplier 2: N.A.; Supplier Part Number 2: N.A.; Component Class: Connectors; PartId: 100500305
footprint LIST_1x3-NC
pins: 1, 2, 3

## Pin List 1x6 SMD, N.C.
designator P?, comment Pin List 1x6  Assembly: Not mounted
Pin List 1x6, 2.54mm (100mil), SMD; Part Number: Pin List 1x6 SMD, N.C.; Manufacturer: W-CON; Manufacturer Part Number: 1125-1106S0M116R2; Note: N.A.; Artikkelnr Noca: 55010026; Pad Count: 6; LatestRevisionDate: 2016-03-29; Pin Count: 6; Publisher: Nordic Semiconductor; Published: 2016-03-29; Value: Pin List 1x6; Footprint Doc: LIST_1x6_SMD; Part number IPS: N.A.; ComponentLink1URL: N.A.; ComponentLink1Description: Datasheet; ComponentLink2URL: N.A.; ComponentLink2Description: Supplier link; HelpURL: \\hizz\pro\app9717\Datasheet\connectors\W-CON\1125-11XXXXMXXXXX.pdf; Supplier 1: Cabcon; Supplier Part Number 1: 1125-1106S0M116R2; Supplier 2: Samtec; Supplier Part Number 2: TSM-106-01-L-SV-P-TR; Component Class: Connectors; PartId: 100500321
footprint LIST_1x6_SMD-NC
pins: 1, 2, 3, 4, 5, 6

## Pin List 1x8 SMD, N.C.
designator P?, comment Pin List 1x8  Assembly: Not mounted
Pin List 1x8, 2.54mm (100mil), SMD; Part Number: Pin List 1x8 SMD, N.C.; Manufacturer: W-CON; Manufacturer Part Number: 1125-1108S0M116R2; Note: N.A.; Artikkelnr Noca: 55010006; Pad Count: 8; LatestRevisionDate: 2016-01-22; Publisher: Nordic Semiconductor; Published: 2016-01-22; Value: Pin List 1x8; Pin Count: 8; Footprint Doc: LIST_1x8_SMD; Part number IPS: N.A.; ComponentLink1URL: N.A.; ComponentLink1Description: Datasheet; ComponentLink2URL: N.A.; ComponentLink2Description: Supplier link; HelpURL: \\hizz\pro\app9717\Datasheet\connectors\W-CON\1125-11XXXXMXXXXX.pdf; Supplier 1: Cabcon; Supplier Part Number 1: 1125-1108S0M116R2; Supplier 2: Samtec; Supplier Part Number 2: TSM-108-01-L-SV-P-TR; Component Class: Connectors; PartId: 100500330
footprint LIST_1x8_SMD-NC
pins: 1, 2, 3, 4, 5, 6, 7, 8

## Pin List 1x10 SMD, N.C.
designator P?, comment Pin List 1x10  Assembly: Not mounted
Pin List 1x10, 2.54mm (100mil), SMD; Part Number: Pin List 1x10 SMD, N.C.; Manufacturer: W-CON; Manufacturer Part Number: 1125-1110S0M116R2; Note: N.A.; Artikkelnr Noca: 55010028; Pad Count: 10; LatestRevisionDate: 2016-03-29; Publisher: Nordic Semiconductor; Published: 2016-03-29; Value: Pin List 1x10; Pin Count: 10; Footprint Doc: LIST_1x10_SMD; Part number IPS: N.A.; ComponentLink1URL: N.A.; ComponentLink1Description: Datasheet; ComponentLink2URL: N.A.; ComponentLink2Description: Supplier link; HelpURL: \\hizz\pro\app9717\Datasheet\connectors\W-CON\1125-11XXXXMXXXXX.pdf; Supplier 1: Cabcon; Supplier Part Number 1: 1125-1110S0M116R2; Supplier 2: Samtec; Supplier Part Number 2: TSM-110-01-L-SV-P-TR; Component Class: Connectors; PartId: 100500338
footprint LIST_1x10_SMD-NC
pins: 1, 2, 3, 4, 5, 6, 7, 8, 9, 10